# Altium footprint library CMF60400K00BHBF.PcbLib: 1 footprints
Each footprint in its own frame and in the unit in brackets; x right, y up, seen from the top. Pads: shape width x height; smd on the part's side, far side on the other; paste and mask are expansions set on the pad; w line width, h text height; cw(c..) or ccw(c..) is an arc to the next point about the centre after c.
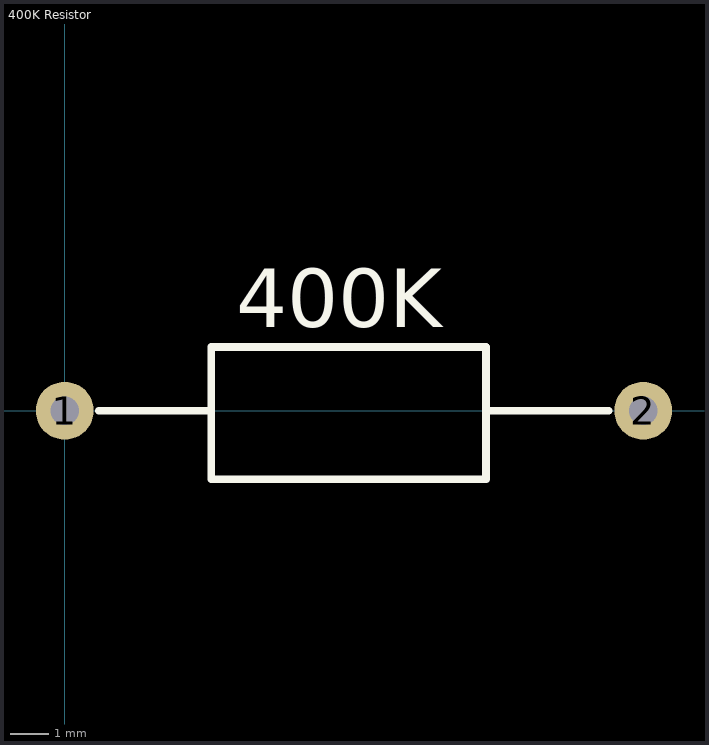
[diagram p0: the footprint, top view; thin cyan lines are the x and y axes]

## 400K Resistor [mm]
pads (2):
  round 1.5 hole 0.75: 1(0,0) 2(15,0)
Top Overlay:
  lines w0.2: 0.889,0 3.721,0 ; 10.922,0 14.097,0 ; 3.798,-1.778 10.922,-1.778 10.922,1.651 3.798,1.651 3.798,-1.778
  text "400K" at 4.445,2.159 h1.52